# Altium footprint library 691 356 310 0xx B.PcbLib: 7 footprints
Each footprint in its own frame and in the unit in brackets; x right, y up, seen from the top. Pads: shape width x height; smd on the part's side, far side on the other; paste and mask are expansions set on the pad; w line width, h text height; cw(c..) or ccw(c..) is an arc to the next point about the centre after c.
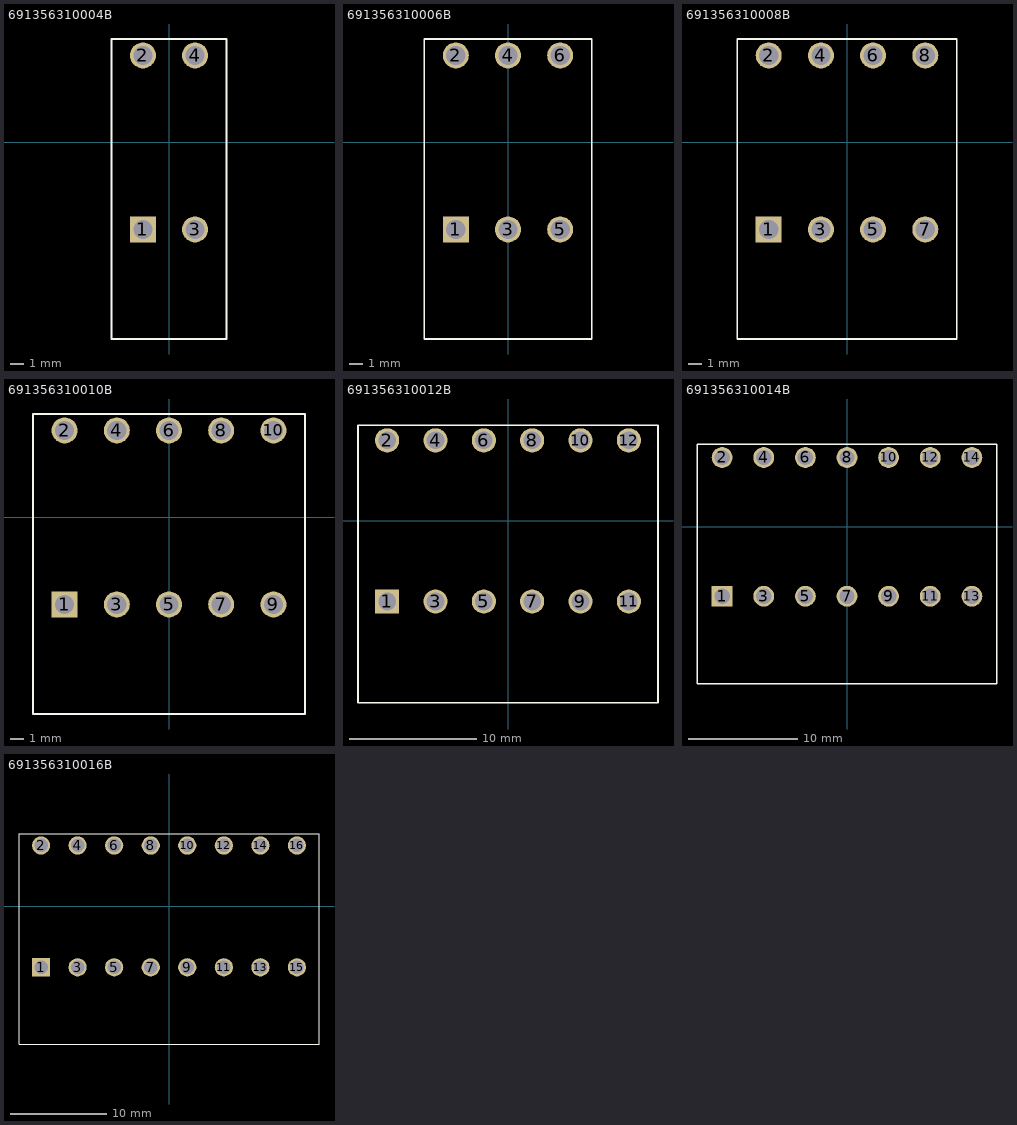
[diagram p0: the footprints below, top view; thin cyan lines are the x and y axes]

## 691356310004B [mm] "3,81mm - PCB - Double level - Horizontal - with flanges - 04p"
height 22.4
pads (4):
  rect 1.9x1.9 hole 1.4: 1(-1.905,-6.35)
  round 1.9 hole 1.4: 2(-1.905,6.35) 3(1.905,-6.35) 4(1.905,6.35)
Top Overlay:
  lines w0.127: -4.205,-14.35 4.205,-14.35 4.205,7.55 -4.205,7.55 -4.205,-14.35
3D body: height 22.41, standoff -3.39, extent -4.205,-14.35 4.205,7.55

## 691356310006B [mm] "3,81mm - PCB - Double level - Horizontal - with flanges - 06p"
height 22.4
pads (6):
  rect 1.9x1.9 hole 1.4: 1(-3.81,-6.35)
  round 1.9 hole 1.4: 2(-3.81,6.35) 3(0,-6.35) 4(0,6.35) 5(3.81,-6.35) 6(3.81,6.35)
Top Overlay:
  lines w0.127: -6.11,-14.35 6.11,-14.35 6.11,7.55 -6.11,7.55 -6.11,-14.35
3D body: height 22.41, standoff -3.39, extent -6.11,-14.35 6.11,7.55

## 691356310008B [mm] "3,81mm - PCB - Double level - Horizontal - with flanges - 08p"
height 22.4
pads (8):
  rect 1.9x1.9 hole 1.4: 1(-5.715,-6.35)
  round 1.9 hole 1.4: 2(-5.715,6.35) 3(-1.905,-6.35) 4(-1.905,6.35) 5(1.905,-6.35) 6(1.905,6.35) 7(5.715,-6.35) 8(5.715,6.35)
Top Overlay:
  lines w0.127: -8.015,-14.35 8.015,-14.35 8.015,7.55 -8.015,7.55 -8.015,-14.35
3D body: height 22.41, standoff -3.39, extent -8.015,-14.35 8.015,7.55

## 691356310010B [mm] "3,81mm - PCB - Double level - Horizontal - with flanges - 10p"
height 22.4
pads (10):
  rect 1.9x1.9 hole 1.4: 1(-7.62,-6.35)
  round 1.9 hole 1.4: 2(-7.62,6.35) 3(-3.81,-6.35) 4(-3.81,6.35) 5(0,-6.35) 6(0,6.35) 7(3.81,-6.35) 8(3.81,6.35) 9(7.62,-6.35) 10(7.62,6.35)
Top Overlay:
  lines w0.127: -9.92,-14.35 -9.92,7.55 9.92,7.55 9.92,-14.35 -9.92,-14.35
3D body: height 22.41, standoff -3.39, extent -9.92,-14.35 9.92,7.55

## 691356310012B [mm] "3,81mm - PCB - Double level - Horizontal - with flanges - 12p"
height 22.4
pads (12):
  rect 1.9x1.9 hole 1.4: 1(-9.525,-6.35)
  round 1.9 hole 1.4: 2(-9.525,6.35) 3(-5.715,-6.35) 4(-5.715,6.35) 5(-1.905,-6.35) 6(-1.905,6.35) 7(1.905,-6.35) 8(1.905,6.35) 9(5.715,-6.35) 10(5.715,6.35) 11(9.525,-6.35) 12(9.525,6.35)
Top Overlay:
  lines w0.127: -11.825,-14.35 -11.825,7.55 11.825,7.55 11.825,-14.35 -11.825,-14.35
3D body: height 22.41, standoff -3.39, extent -11.825,-14.35 11.825,7.55

## 691356310014B [mm] "3,81mm - PCB - Double level - Horizontal - with flanges - 14p"
height 22.4
pads (14):
  rect 1.9x1.9 hole 1.4: 1(-11.43,-6.35)
  round 1.9 hole 1.4: 2(-11.43,6.35) 3(-7.62,-6.35) 4(-7.62,6.35) 5(-3.81,-6.35) 6(-3.81,6.35) 7(0,-6.35) 8(0,6.35) 9(3.81,-6.35) 10(3.81,6.35) 11(7.62,-6.35) 12(7.62,6.35) 13(11.43,-6.35) 14(11.43,6.35)
Top Overlay:
  lines w0.127: -13.73,-14.35 -13.73,7.55 13.73,7.55 13.73,-14.35 -13.73,-14.35
3D body: height 22.41, standoff -3.39, extent -13.73,-14.35 13.73,7.55

## 691356310016B [mm] "3,81mm - PCB - Double level - Horizontal - with flanges - 16p"
height 22.4
pads (16):
  rect 1.9x1.9 hole 1.4: 1(-13.335,-6.35)
  round 1.9 hole 1.4: 2(-13.335,6.35) 3(-9.525,-6.35) 4(-9.525,6.35) 5(-5.715,-6.35) 6(-5.715,6.35) 7(-1.905,-6.35) 8(-1.905,6.35) 9(1.905,-6.35) 10(1.905,6.35) 11(5.715,-6.35) 12(5.715,6.35) 13(9.525,-6.35) 14(9.525,6.35) 15(13.335,-6.35) 16(13.335,6.35)
Top Overlay:
  lines w0.127: -15.635,-14.35 -15.635,7.55 15.635,7.55 15.635,-14.35 -15.635,-14.35
3D body: height 22.41, standoff -3.39, extent -15.635,-14.35 15.635,7.55